# Altium schematic symbol library 35V 1500uF cap.SchLib: 1 symbol
Pins are listed as number, name and electrical type; pins without a type are passive.

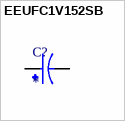
[diagram p0: symbol EEUFC1V152SB]

## EEUFC1V152SB
designator C?
CAP ALUM 1500UF 20% 35V RADIAL; MF: Panasonic; MP: EEU-FC1V152SB; SnapEDA_Link: https://www.snapeda.com/parts/EEU-FC1V152SB/Panasonic/view-part/?ref=snap; Package: RADIAL-2 Panasonic; Value: *; Check_prices: https://www.snapeda.com/parts/EEU-FC1V152SB/Panasonic/view-part/?ref=eda
footprint CAPPRD750W80D1800H2000
pins: N, P